# EAGLE library part OPAMP:LT1630(RRIO,30MHZ,10V/US,DUAL) (library QuantumOptics)
Opamp, dual, RRIO, GBW=30MHZ, Vs=10V/uS, Vio<525uV, Ib<1uA.
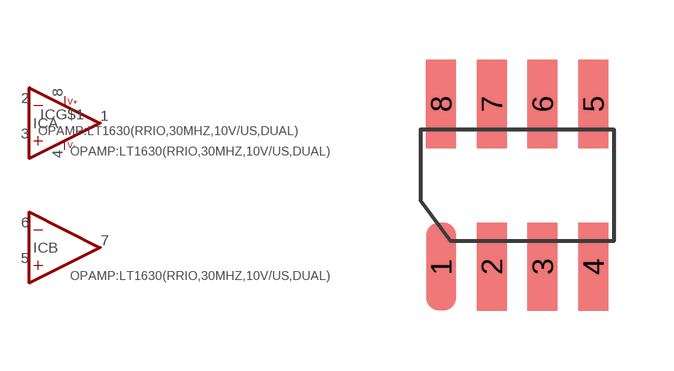
[diagram p29: symbol with the pads of SOIC-8; footprint SOIC-8]

Designator prefix IC; gates A=OPAMP B=OPAMP G$1=PWR+-

## OPAMP:LT1630(RRIO,30MHZ,10V/US,DUAL)CS8  [SOIC-8]
1  A:OUT  out
2  A:-IN  in
3  A:+IN  in
4  G$1:V-
5  B:+IN  in
6  B:-IN  in
7  B:OUT  out
8  G$1:V++

## Footprint SOIC-8 (pad centres in mm)
SOIC-8 (AKA SO-8), pads on 0.050" grid.
smd 0.75 x 2.2: 1 -1.27,-2.032; 2 0,-2.032; 3 1.27,-2.032; 4 2.54,-2.032; 5 2.54,2.032; 6 1.27,2.032; 7 0,2.032; 8 -1.27,2.032